# Altium integrated library NSC Switcher.IntLib: 922 symbols (part 1 of 24)
Pins are listed as number, name and electrical type; pins without a type are passive.

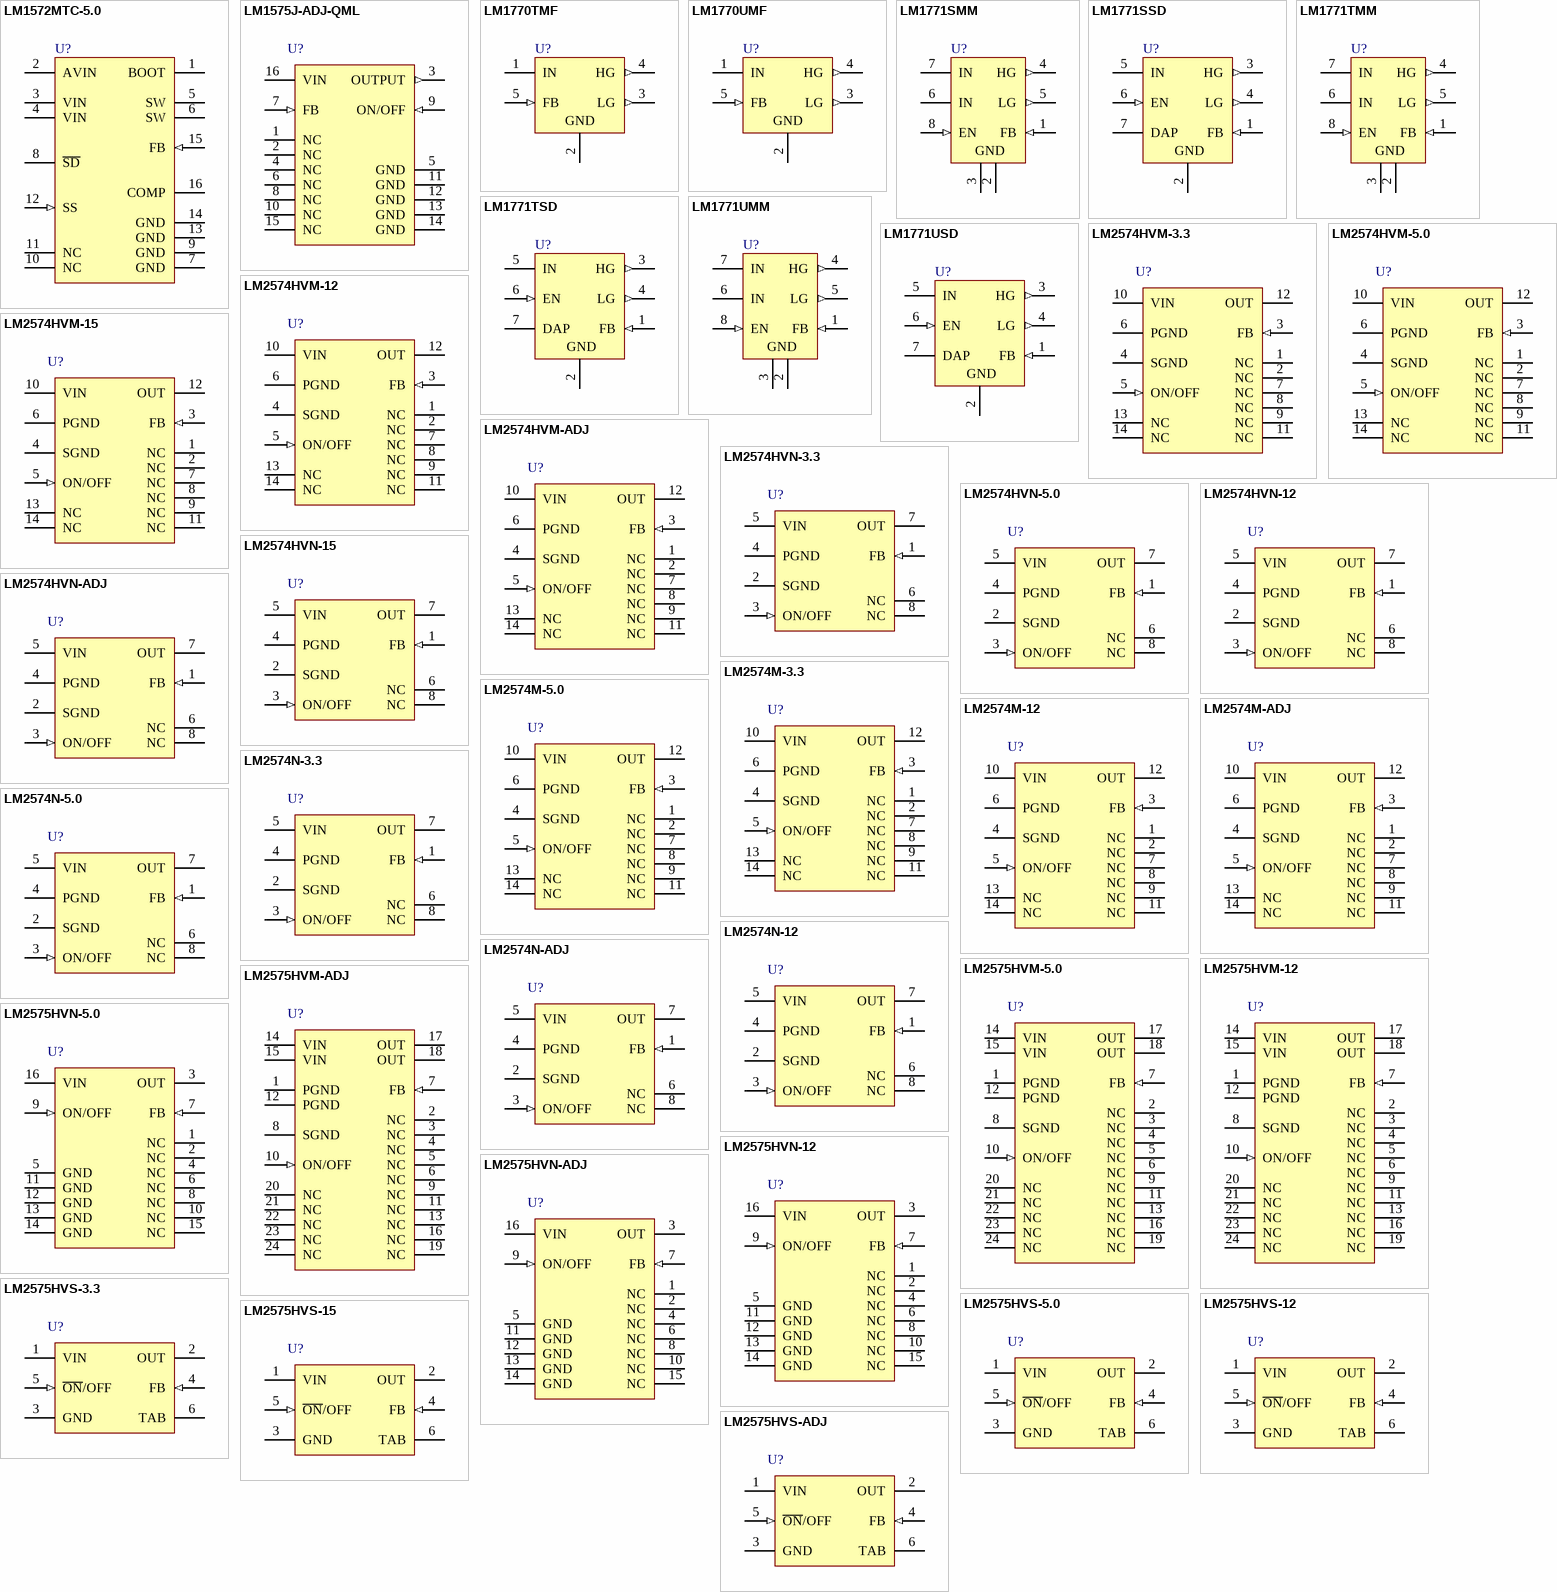
[diagram p0: symbols LM1572MTC-5.0 to LM2575HVS-ADJ]

## LM1572MTC-5.0
designator U?
1.5A, 500kHz Step-down Voltage Regulator; PartNumber: LM1572MTC-5.0; Manufacturer: National Semiconductor; CompType: Switcher; PackageTopMarking: NSZXYTT*1572MTC*5.0; PowerWise: N; FirstPublished: 29-May-2009; DatasheetVersion: Jul-2002; PackageVersion: revD, Jun-2003; PackageReference: MTC16; Publisher: Altium Limited; PackageDescription: Molded TSSOP, Jedec, 5 x 4.4 x 0.9mm Body, 16 Lead, 0.65mm Pitch; RoHS: Y; PinCount: 16; DigiKeyPartNumber: LM1572MTC-5.0-ND; Code_JEDEC: MO-153-AB; ComponentLink1Description: LM1572 Datasheet; ComponentLink1URL: http://www.national.com/ds/LM/LM1572.pdf; ComponentLink2Description: LM1572 Web Page; ComponentLink2URL: http://www.national.com/pf/LM/LM1572.html; ComponentLink3Description: MTC16 Package Page; ComponentLink3URL: http://www.national.com/packaging/folders/mtc16.html
footprint MTC16_N (TSOP, 16-Leads, Body 5x4.4mm, Pitch 0.65mm, IPC Medium Density)
footprint MTC16_L (TSOP, 16-Leads, Body 5x4.4mm, Pitch 0.65mm, IPC High Density)
footprint MTC16_M (TSOP, 16-Leads, Body 5x4.4mm, Pitch 0.65mm, IPC Low Density)
pins: 1 BOOT, 2 AVIN (power), 3 VIN (power), 4 VIN (power), 5 SW (power), 6 SW (power), 7 GND (power), 8 ~{SD}, 9 GND (power), 10 NC, 11 NC, 12 SS (in), 13 GND (power), 14 GND (power), 15 FB (in), 16 COMP

## LM1575J-ADJ-QML
designator U?
SIMPLE SWITCHER 1A Step-Down Voltage Regulator; PartNumber: LM1575J-ADJ-QML; Manufacturer: National Semiconductor; PackageTopMarking: NSZSSXXYYA*LM1575J-ADJ-QML*5962-9167101MEA Q; PowerWise: N; MilaeroCode: B88; FirstPublished: 4-Dec-2008; DatasheetVersion: Apr-2007; PackageVersion: revL, Sep-1993; PackageReference: J16A; Publisher: Altium Limited; PackageDescription: Cerdip (J), 16 Lead; CompType: Switcher; RoHS: N; PinCount: 16; ComponentLink1Description: LM1575 Datasheet; ComponentLink1URL: http://www.national.com/ds/LM/LM1575.pdf; ComponentLink2Description: LM1575 Web Page; ComponentLink2URL: http://www.national.com/pf/LM/LM1575.html; ComponentLink3Description: J16A Package Drawing; ComponentLink3URL: http://www.national.com/packaging/folders/j16a.html
footprint J16A (DIP, 16-Leads, Row Spacing 7.62mm, Pitch 2.54mm, Body 19.56x6.73mm)
pins: 1 NC, 2 NC, 3 OUTPUT (out), 4 NC, 5 GND (power), 6 NC, 7 FB (in), 8 NC, 9 ON/OFF (in), 10 NC, 11 GND (power), 12 GND (power), 13 GND (power), 14 GND (power), 15 NC, 16 VIN (power)

## LM1770TMF
designator U?
Low-Voltage SOT23 Synchronous Buck Controller With No External Compensation; PartNumber: LM1770TMF; Manufacturer: National Semiconductor; CompType: Switcher; PackageTopMarking: SKKB*XTT; FirstPublished: 4-Dec-2008; DatasheetVersion: Jul-2006; PackageVersion: revD, Aug-2008; PackageReference: MF05A; Publisher: Altium Limited; PackageDescription: Molded SOT-23, .115 x .063 x .040 in Body, 5 Lead, .0375 in Pitch; RoHS: O; PinCount: 5; DigiKeyPartNumber: LM1770TMFCT-ND; ComponentLink1Description: LM1770 Datasheet; ComponentLink1URL: http://www.national.com/ds/LM/LM1770.pdf; ComponentLink2Description: LM1770 Web Page; ComponentLink2URL: http://www.national.com/pf/LM/LM1770.html; ComponentLink3Description: MF05A Package Drawing; ComponentLink3URL: http://www.national.com/packaging/folders/mf05a.html
footprint MF05A_N (SOT23, 5-Leads, Body 2.9x1.6mm, Pitch 0.95mm, Lead Span 2.8mm, IPC Medium Density)
footprint MF05A_L (SOT23, 5-Leads, Body 2.9x1.6mm, Pitch 0.95mm, Lead Span 2.8mm, IPC High Density)
footprint MF05A_M (SOT23, 5-Leads, Body 2.9x1.6mm, Pitch 0.95mm, Lead Span 2.8mm, IPC Low Density)
pins: 1 IN (power), 2 GND (power), 3 LG (out), 4 HG (out), 5 FB (in)

## LM1770UMF
designator U?
Low-Voltage SOT23 Synchronous Buck Controller With No External Compensation; PartNumber: LM1770UMF; Manufacturer: National Semiconductor; CompType: Switcher; PackageTopMarking: SKLB*XTT; FirstPublished: 4-Dec-2008; DatasheetVersion: Jul-2006; PackageVersion: revD, Aug-2008; PackageReference: MF05A; Publisher: Altium Limited; PackageDescription: Molded SOT-23, .115 x .063 x .040 in Body, 5 Lead, .0375 in Pitch; RoHS: Y; PinCount: 5; DigiKeyPartNumber: LM1770UMFCT-ND; ComponentLink1Description: LM1770 Datasheet; ComponentLink1URL: http://www.national.com/ds/LM/LM1770.pdf; ComponentLink2Description: LM1770 Web Page; ComponentLink2URL: http://www.national.com/pf/LM/LM1770.html; ComponentLink3Description: MF05A Package Drawing; ComponentLink3URL: http://www.national.com/packaging/folders/mf05a.html
footprint MF05A_N (SOT23, 5-Leads, Body 2.9x1.6mm, Pitch 0.95mm, Lead Span 2.8mm, IPC Medium Density)
footprint MF05A_L (SOT23, 5-Leads, Body 2.9x1.6mm, Pitch 0.95mm, Lead Span 2.8mm, IPC High Density)
footprint MF05A_M (SOT23, 5-Leads, Body 2.9x1.6mm, Pitch 0.95mm, Lead Span 2.8mm, IPC Low Density)
pins: 1 IN (power), 2 GND (power), 3 LG (out), 4 HG (out), 5 FB (in)

## LM1771SMM
designator U?
Low-Voltage Synchronous Buck Controller with Precision Enable and No External Compensation; PartNumber: LM1771SMM; Manufacturer: National Semiconductor; CompType: Switcher; PackageTopMarking: ZXTT*SNRB; FirstPublished: 4-Dec-2008; DatasheetVersion: Oct-2006; PackageVersion: revF, Apr-2008; PackageReference: MUA08A; Publisher: Altium Limited; PackageDescription: MINI SOIC, .118 x .118 x .034in, 8 Lead, .0256in Pitch; RoHS: Y; PinCount: 8; DigiKeyPartNumber: LM1771SMMCT-ND; Code_JEDEC: MO-187-AA; ComponentLink1Description: LM1771 Datasheet; ComponentLink1URL: http://www.national.com/ds/LM/LM1771.pdf; ComponentLink2Description: LM1771 Web Page; ComponentLink2URL: http://www.national.com/pf/LM/LM1771.html; ComponentLink3Description: MUA08A Package Drawing; ComponentLink3URL: http://www.national.com/packaging/folders/mua08a.html
footprint MUA08A_N (TSOP, 8-Leads, Body 3x3mm, Pitch 0.65mm, IPC Medium Density)
footprint MUA08A_L (TSOP, 8-Leads, Body 3x3mm, Pitch 0.65mm, IPC High Density)
footprint MUA08A_M (TSOP, 8-Leads, Body 3x3mm, Pitch 0.65mm, IPC Low Density)
pins: 1 FB (in), 2 GND (power), 3 GND (power), 4 HG (out), 5 LG (out), 6 IN (power), 7 IN (power), 8 EN (in)

## LM1771SSD
designator U?
Low-Voltage Synchronous Buck Controller with Precision Enable and No External Compensation; PartNumber: LM1771SSD; Manufacturer: National Semiconductor; CompType: Switcher; PackageTopMarking: ZXYTT*1771S; FirstPublished: 4-Dec-2008; DatasheetVersion: Oct-2006; PackageVersion: revA, Jul-2003; PackageReference: SDE06A; Publisher: Altium Limited; PackageDescription: LLP, Plastic, Dual, 3 x 3 x 0.8mm Body, 6 Lead, 0.95mm Pitch, No Pullback; RoHS: Y; PinCount: 6; DigiKeyPartNumber: LM1771SSDCT-ND; ComponentLink1Description: LM1771 Datasheet; ComponentLink1URL: http://www.national.com/ds/LM/LM1771.pdf; ComponentLink2Description: LM1771 Web Page; ComponentLink2URL: http://www.national.com/pf/LM/LM1771.html; ComponentLink3Description: SDE06A Package Drawing; ComponentLink3URL: http://www.national.com/packaging/folders/sde06a.html
footprint SDE06A_full (SON, 6-Leads, Body 3x3 mm, Pitch 0.95mm, Full Paste, NSC Recommended)
footprint SDE06A_quad (SON, 6-Leads, Body 3x3 mm, Pitch 0.95mm, Quad Paste, NSC Recommended)
pins: 1 FB (in), 2 GND (power), 3 HG (out), 4 LG (out), 5 IN (power), 6 EN (in), 7 DAP (power)

## LM1771TMM
designator U?
Low-Voltage Synchronous Buck Controller with Precision Enable and No External Compensation; PartNumber: LM1771TMM; Manufacturer: National Semiconductor; CompType: Switcher; PackageTopMarking: ZXTT*SNSB; FirstPublished: 4-Dec-2008; DatasheetVersion: Oct-2006; PackageVersion: revF, Apr-2008; PackageReference: MUA08A; Publisher: Altium Limited; PackageDescription: MINI SOIC, .118 x .118 x .034in, 8 Lead, .0256in Pitch; RoHS: Y; PinCount: 8; DigiKeyPartNumber: LM1771TMMCT-ND; Code_JEDEC: MO-187-AA; ComponentLink1Description: LM1771 Datasheet; ComponentLink1URL: http://www.national.com/ds/LM/LM1771.pdf; ComponentLink2Description: LM1771 Web Page; ComponentLink2URL: http://www.national.com/pf/LM/LM1771.html; ComponentLink3Description: MUA08A Package Drawing; ComponentLink3URL: http://www.national.com/packaging/folders/mua08a.html
footprint MUA08A_N (TSOP, 8-Leads, Body 3x3mm, Pitch 0.65mm, IPC Medium Density)
footprint MUA08A_L (TSOP, 8-Leads, Body 3x3mm, Pitch 0.65mm, IPC High Density)
footprint MUA08A_M (TSOP, 8-Leads, Body 3x3mm, Pitch 0.65mm, IPC Low Density)
pins: 1 FB (in), 2 GND (power), 3 GND (power), 4 HG (out), 5 LG (out), 6 IN (power), 7 IN (power), 8 EN (in)

## LM1771TSD
designator U?
Low-Voltage Synchronous Buck Controller with Precision Enable and No External Compensation; PartNumber: LM1771TSD; Manufacturer: National Semiconductor; CompType: Switcher; PackageTopMarking: ZXYTT*1771T; FirstPublished: 4-Dec-2008; DatasheetVersion: Oct-2006; PackageVersion: revA, Jul-2003; PackageReference: SDE06A; Publisher: Altium Limited; PackageDescription: LLP, Plastic, Dual, 3 x 3 x 0.8mm Body, 6 Lead, 0.95mm Pitch, No Pullback; RoHS: Y; PinCount: 6; DigiKeyPartNumber: LM1771TSDCT-ND; ComponentLink1Description: LM1771 Datasheet; ComponentLink1URL: http://www.national.com/ds/LM/LM1771.pdf; ComponentLink2Description: LM1771 Web Page; ComponentLink2URL: http://www.national.com/pf/LM/LM1771.html; ComponentLink3Description: SDE06A Package Drawing; ComponentLink3URL: http://www.national.com/packaging/folders/sde06a.html
footprint SDE06A_full (SON, 6-Leads, Body 3x3 mm, Pitch 0.95mm, Full Paste, NSC Recommended)
footprint SDE06A_quad (SON, 6-Leads, Body 3x3 mm, Pitch 0.95mm, Quad Paste, NSC Recommended)
pins: 1 FB (in), 2 GND (power), 3 HG (out), 4 LG (out), 5 IN (power), 6 EN (in), 7 DAP (power)

## LM1771UMM
designator U?
Low-Voltage Synchronous Buck Controller with Precision Enable and No External Compensation; PartNumber: LM1771UMM; Manufacturer: National Semiconductor; CompType: Switcher; PackageTopMarking: ZXTT*SNTB; FirstPublished: 4-Dec-2008; DatasheetVersion: Oct-2006; PackageVersion: revF, Apr-2008; PackageReference: MUA08A; Publisher: Altium Limited; PackageDescription: MINI SOIC, .118 x .118 x .034in, 8 Lead, .0256in Pitch; RoHS: Y; PinCount: 8; DigiKeyPartNumber: LM1771UMMCT-ND; Code_JEDEC: MO-187-AA; ComponentLink1Description: LM1771 Datasheet; ComponentLink1URL: http://www.national.com/ds/LM/LM1771.pdf; ComponentLink2Description: LM1771 Web Page; ComponentLink2URL: http://www.national.com/pf/LM/LM1771.html; ComponentLink3Description: MUA08A Package Drawing; ComponentLink3URL: http://www.national.com/packaging/folders/mua08a.html
footprint MUA08A_N (TSOP, 8-Leads, Body 3x3mm, Pitch 0.65mm, IPC Medium Density)
footprint MUA08A_L (TSOP, 8-Leads, Body 3x3mm, Pitch 0.65mm, IPC High Density)
footprint MUA08A_M (TSOP, 8-Leads, Body 3x3mm, Pitch 0.65mm, IPC Low Density)
pins: 1 FB (in), 2 GND (power), 3 GND (power), 4 HG (out), 5 LG (out), 6 IN (power), 7 IN (power), 8 EN (in)

## LM1771USD
designator U?
Low-Voltage Synchronous Buck Controller with Precision Enable and No External Compensation; PartNumber: LM1771USD; Manufacturer: National Semiconductor; CompType: Switcher; PackageTopMarking: ZXYTT*1771U; FirstPublished: 4-Dec-2008; DatasheetVersion: Oct-2006; PackageVersion: revA, Jul-2003; PackageReference: SDE06A; Publisher: Altium Limited; PackageDescription: LLP, Plastic, Dual, 3 x 3 x 0.8mm Body, 6 Lead, 0.95mm Pitch, No Pullback; RoHS: Y; PinCount: 6; DigiKeyPartNumber: LM1771USDCT-ND; ComponentLink1Description: LM1771 Datasheet; ComponentLink1URL: http://www.national.com/ds/LM/LM1771.pdf; ComponentLink2Description: LM1771 Web Page; ComponentLink2URL: http://www.national.com/pf/LM/LM1771.html; ComponentLink3Description: SDE06A Package Drawing; ComponentLink3URL: http://www.national.com/packaging/folders/sde06a.html
footprint SDE06A_full (SON, 6-Leads, Body 3x3 mm, Pitch 0.95mm, Full Paste, NSC Recommended)
footprint SDE06A_quad (SON, 6-Leads, Body 3x3 mm, Pitch 0.95mm, Quad Paste, NSC Recommended)
pins: 1 FB (in), 2 GND (power), 3 HG (out), 4 LG (out), 5 IN (power), 6 EN (in), 7 DAP (power)

## LM2574HVM-3.3
designator U?
SIMPLE SWITCHER 0.5A Step-Down Voltage Regulator; PartNumber: LM2574HVM-3.3; Manufacturer: National Semiconductor; PackageTopMarking: NSUZXYTT*LM2574HVM*-3.3 P+; PowerWise: N; FirstPublished: 4-Dec-2008; DatasheetVersion: Jun-1999; PackageVersion: revD, Feb-1987; PackageReference: M14B; Publisher: Altium Limited; PackageDescription: Molded Package, S.O., .300in Wide, 14 Lead; CompType: Switcher; RoHS: O; PinCount: 14; DigiKeyPartNumber: LM2574HVM-3.3-ND; Code_JEDEC: MS-013-AF; Code_IPC: SOIC127P1030-14; ComponentLink1Description: LM2574HV Datasheet; ComponentLink1URL: http://www.national.com/ds/LM/LM2574HV.pdf; ComponentLink2Description: LM2574HV Web Page; ComponentLink2URL: http://www.national.com/pf/LM/LM2574HV.html; ComponentLink3Description: M14B Package Page; ComponentLink3URL: http://www.national.com/packaging/folders/m14b.html
footprint M14B_N (SOIC, 14-Leads, Body 9x7.5mm, Pitch 1.27mm, IPC Medium Density)
footprint M14B_L (SOIC, 14-Leads, Body 9x7.5mm, Pitch 1.27mm, IPC High Density)
footprint M14B_M (SOIC, 14-Leads, Body 9x7.5mm, Pitch 1.27mm, IPC Low Density)
pins: 1 NC, 2 NC, 3 FB (in), 4 SGND (power), 5 ON/OFF (in), 6 PGND (power), 7 NC, 8 NC, 9 NC, 10 VIN (power), 11 NC, 12 OUT (power), 13 NC, 14 NC

## LM2574HVM-5.0
designator U?
SIMPLE SWITCHER 0.5A Step-Down Voltage Regulator; PartNumber: LM2574HVM-5.0; Manufacturer: National Semiconductor; PackageTopMarking: NSUZXYTT*LM2574HVM*-5.0 P+; PowerWise: N; FirstPublished: 4-Dec-2008; DatasheetVersion: Jun-1999; PackageVersion: revD, Feb-1987; PackageReference: M14B; Publisher: Altium Limited; PackageDescription: Molded Package, S.O., .300in Wide, 14 Lead; CompType: Switcher; RoHS: O; PinCount: 14; DigiKeyPartNumber: LM2574HVM-5.0-ND; Code_JEDEC: MS-013-AF; Code_IPC: SOIC127P1030-14; ComponentLink1Description: LM2574HV Datasheet; ComponentLink1URL: http://www.national.com/ds/LM/LM2574HV.pdf; ComponentLink2Description: LM2574HV Web Page; ComponentLink2URL: http://www.national.com/pf/LM/LM2574HV.html; ComponentLink3Description: M14B Package Page; ComponentLink3URL: http://www.national.com/packaging/folders/m14b.html
footprint M14B_N (SOIC, 14-Leads, Body 9x7.5mm, Pitch 1.27mm, IPC Medium Density)
footprint M14B_L (SOIC, 14-Leads, Body 9x7.5mm, Pitch 1.27mm, IPC High Density)
footprint M14B_M (SOIC, 14-Leads, Body 9x7.5mm, Pitch 1.27mm, IPC Low Density)
pins: 1 NC, 2 NC, 3 FB (in), 4 SGND (power), 5 ON/OFF (in), 6 PGND (power), 7 NC, 8 NC, 9 NC, 10 VIN (power), 11 NC, 12 OUT (power), 13 NC, 14 NC

## LM2574HVM-12
designator U?
SIMPLE SWITCHER 0.5A Step-Down Voltage Regulator; PartNumber: LM2574HVM-12; Manufacturer: National Semiconductor; PackageTopMarking: NSUZXYTT*LM2574HVM*-12 P+; PowerWise: N; FirstPublished: 4-Dec-2008; DatasheetVersion: Jun-1999; PackageVersion: revD, Feb-1987; PackageReference: M14B; Publisher: Altium Limited; PackageDescription: Molded Package, S.O., .300in Wide, 14 Lead; CompType: Switcher; RoHS: O; PinCount: 14; DigiKeyPartNumber: LM2574HVM-12-ND; Code_JEDEC: MS-013-AF; Code_IPC: SOIC127P1030-14; ComponentLink1Description: LM2574HV Datasheet; ComponentLink1URL: http://www.national.com/ds/LM/LM2574HV.pdf; ComponentLink2Description: LM2574HV Web Page; ComponentLink2URL: http://www.national.com/pf/LM/LM2574HV.html; ComponentLink3Description: M14B Package Page; ComponentLink3URL: http://www.national.com/packaging/folders/m14b.html
footprint M14B_N (SOIC, 14-Leads, Body 9x7.5mm, Pitch 1.27mm, IPC Medium Density)
footprint M14B_L (SOIC, 14-Leads, Body 9x7.5mm, Pitch 1.27mm, IPC High Density)
footprint M14B_M (SOIC, 14-Leads, Body 9x7.5mm, Pitch 1.27mm, IPC Low Density)
pins: 1 NC, 2 NC, 3 FB (in), 4 SGND (power), 5 ON/OFF (in), 6 PGND (power), 7 NC, 8 NC, 9 NC, 10 VIN (power), 11 NC, 12 OUT (power), 13 NC, 14 NC

## LM2574HVM-15
designator U?
SIMPLE SWITCHER 0.5A Step-Down Voltage Regulator; PartNumber: LM2574HVM-15; Manufacturer: National Semiconductor; PackageTopMarking: NSUZXYTT*LM2574HVM*-15 P+; PowerWise: N; FirstPublished: 4-Dec-2008; DatasheetVersion: Jun-1999; PackageVersion: revD, Feb-1987; PackageReference: M14B; Publisher: Altium Limited; PackageDescription: Molded Package, S.O., .300in Wide, 14 Lead; CompType: Switcher; RoHS: Y; PinCount: 14; DigiKeyPartNumber: LM2574HVM-15-ND; Code_JEDEC: MS-013-AF; Code_IPC: SOIC127P1030-14; ComponentLink1Description: LM2574HV Datasheet; ComponentLink1URL: http://www.national.com/ds/LM/LM2574HV.pdf; ComponentLink2Description: LM2574HV Web Page; ComponentLink2URL: http://www.national.com/pf/LM/LM2574HV.html; ComponentLink3Description: M14B Package Page; ComponentLink3URL: http://www.national.com/packaging/folders/m14b.html
footprint M14B_N (SOIC, 14-Leads, Body 9x7.5mm, Pitch 1.27mm, IPC Medium Density)
footprint M14B_L (SOIC, 14-Leads, Body 9x7.5mm, Pitch 1.27mm, IPC High Density)
footprint M14B_M (SOIC, 14-Leads, Body 9x7.5mm, Pitch 1.27mm, IPC Low Density)
pins: 1 NC, 2 NC, 3 FB (in), 4 SGND (power), 5 ON/OFF (in), 6 PGND (power), 7 NC, 8 NC, 9 NC, 10 VIN (power), 11 NC, 12 OUT (power), 13 NC, 14 NC

## LM2574HVM-ADJ
designator U?
SIMPLE SWITCHER 0.5A Step-Down Voltage Regulator; PartNumber: LM2574HVM-ADJ; Manufacturer: National Semiconductor; PackageTopMarking: NSUZXYTT*LM2574HVM*-ADJ P+; PowerWise: N; FirstPublished: 4-Dec-2008; DatasheetVersion: Jun-1999; PackageVersion: revD, Feb-1987; PackageReference: M14B; Publisher: Altium Limited; PackageDescription: Molded Package, S.O., .300in Wide, 14 Lead; CompType: Switcher; RoHS: O; PinCount: 14; DigiKeyPartNumber: LM2574HVM-ADJ-ND; Code_JEDEC: MS-013-AF; Code_IPC: SOIC127P1030-14; ComponentLink1Description: LM2574HV Datasheet; ComponentLink1URL: http://www.national.com/ds/LM/LM2574HV.pdf; ComponentLink2Description: LM2574HV Web Page; ComponentLink2URL: http://www.national.com/pf/LM/LM2574HV.html; ComponentLink3Description: M14B Package Page; ComponentLink3URL: http://www.national.com/packaging/folders/m14b.html
footprint M14B_N (SOIC, 14-Leads, Body 9x7.5mm, Pitch 1.27mm, IPC Medium Density)
footprint M14B_L (SOIC, 14-Leads, Body 9x7.5mm, Pitch 1.27mm, IPC High Density)
footprint M14B_M (SOIC, 14-Leads, Body 9x7.5mm, Pitch 1.27mm, IPC Low Density)
pins: 1 NC, 2 NC, 3 FB (in), 4 SGND (power), 5 ON/OFF (in), 6 PGND (power), 7 NC, 8 NC, 9 NC, 10 VIN (power), 11 NC, 12 OUT (power), 13 NC, 14 NC

## LM2574HVN-3.3
designator U?
SIMPLE SWITCHER 0.5A Step-Down Voltage Regulator; PartNumber: LM2574HVN-3.3; Manufacturer: National Semiconductor; PackageTopMarking: NSUZXYTT*LM2574HVN*-3.3 P+; FirstPublished: 4-Dec-2008; DatasheetVersion: Jun-1999; PackageVersion: revG, May-2006; PackageReference: N08E; Publisher: Altium Limited; PackageDescription: MDIP, .365 x .250 x .130in, 8 Lead, .100in Pitch; CompType: Switcher; RoHS: Y; PinCount: 8; DigiKeyPartNumber: LM2574HVN-3.3-ND; Code_JEDEC: MS-001-BA; ComponentLink1Description: LM2574HV Datasheet; ComponentLink1URL: http://www.national.com/ds/LM/LM2574HV.pdf; ComponentLink2Description: LM2574HV Web Page; ComponentLink2URL: http://www.national.com/pf/LM/LM2574HV.html; ComponentLink3Description: N08E Package Page; ComponentLink3URL: http://www.national.com/packaging/folders/n08e.html
footprint N08E (DIP, 8-Leads, Row Spacing 7.62mm, Pitch 2.54mm, Body 9.91x6.35mm)
pins: 1 FB (in), 2 SGND (power), 3 ON/OFF (in), 4 PGND (power), 5 VIN (power), 6 NC, 7 OUT (power), 8 NC

## LM2574HVN-5.0
designator U?
SIMPLE SWITCHER 0.5A Step-Down Voltage Regulator; PartNumber: LM2574HVN-5.0; Manufacturer: National Semiconductor; PackageTopMarking: NSUZXYTT*LM2574HVN*-5.0 P+; PowerWise: N; FirstPublished: 4-Dec-2008; DatasheetVersion: Jun-1999; PackageVersion: revG, May-2006; PackageReference: N08E; Publisher: Altium Limited; PackageDescription: MDIP, .365 x .250 x .130in, 8 Lead, .100in Pitch; CompType: Switcher; RoHS: O; PinCount: 8; DigiKeyPartNumber: LM2574HVN-5.0-ND; Code_JEDEC: MS-001-BA; ComponentLink1Description: LM2574HV Datasheet; ComponentLink1URL: http://www.national.com/ds/LM/LM2574HV.pdf; ComponentLink2Description: LM2574HV Web Page; ComponentLink2URL: http://www.national.com/pf/LM/LM2574HV.html; ComponentLink3Description: N08E Package Page; ComponentLink3URL: http://www.national.com/packaging/folders/n08e.html
footprint N08E (DIP, 8-Leads, Row Spacing 7.62mm, Pitch 2.54mm, Body 9.91x6.35mm)
pins: 1 FB (in), 2 SGND (power), 3 ON/OFF (in), 4 PGND (power), 5 VIN (power), 6 NC, 7 OUT (power), 8 NC

## LM2574HVN-12
designator U?
SIMPLE SWITCHER 0.5A Step-Down Voltage Regulator; PartNumber: LM2574HVN-12; Manufacturer: National Semiconductor; PackageTopMarking: NSUZXYTT*LM2574HVN*-12 P+; PowerWise: N; FirstPublished: 4-Dec-2008; DatasheetVersion: Jun-1999; PackageVersion: revG, May-2006; PackageReference: N08E; Publisher: Altium Limited; PackageDescription: MDIP, .365 x .250 x .130in, 8 Lead, .100in Pitch; CompType: Switcher; RoHS: O; PinCount: 8; DigiKeyPartNumber: LM2574HVN-12-ND; Code_JEDEC: MS-001-BA; ComponentLink1Description: LM2574HV Datasheet; ComponentLink1URL: http://www.national.com/ds/LM/LM2574HV.pdf; ComponentLink2Description: LM2574HV Web Page; ComponentLink2URL: http://www.national.com/pf/LM/LM2574HV.html; ComponentLink3Description: N08E Package Page; ComponentLink3URL: http://www.national.com/packaging/folders/n08e.html
footprint N08E (DIP, 8-Leads, Row Spacing 7.62mm, Pitch 2.54mm, Body 9.91x6.35mm)
pins: 1 FB (in), 2 SGND (power), 3 ON/OFF (in), 4 PGND (power), 5 VIN (power), 6 NC, 7 OUT (power), 8 NC

## LM2574HVN-15
designator U?
SIMPLE SWITCHER 0.5A Step-Down Voltage Regulator; PartNumber: LM2574HVN-15; Manufacturer: National Semiconductor; PackageTopMarking: NSUZXYTT*LM2574HVN*-15 P+; PowerWise: N; FirstPublished: 4-Dec-2008; DatasheetVersion: Jun-1999; PackageVersion: revG, May-2006; PackageReference: N08E; Publisher: Altium Limited; PackageDescription: MDIP, .365 x .250 x .130in, 8 Lead, .100in Pitch; CompType: Switcher; RoHS: O; PinCount: 8; DigiKeyPartNumber: LM2574HVN-15-ND; Code_JEDEC: MS-001-BA; ComponentLink1Description: LM2574HV Datasheet; ComponentLink1URL: http://www.national.com/ds/LM/LM2574HV.pdf; ComponentLink2Description: LM2574HV Web Page; ComponentLink2URL: http://www.national.com/pf/LM/LM2574HV.html; ComponentLink3Description: N08E Package Page; ComponentLink3URL: http://www.national.com/packaging/folders/n08e.html
footprint N08E (DIP, 8-Leads, Row Spacing 7.62mm, Pitch 2.54mm, Body 9.91x6.35mm)
pins: 1 FB (in), 2 SGND (power), 3 ON/OFF (in), 4 PGND (power), 5 VIN (power), 6 NC, 7 OUT (power), 8 NC

## LM2574HVN-ADJ
designator U?
SIMPLE SWITCHER 0.5A Step-Down Voltage Regulator; PartNumber: LM2574HVN-ADJ; Manufacturer: National Semiconductor; PackageTopMarking: NSUZXYTT*LM2574HVN*-ADJ P+; PowerWise: N; FirstPublished: 4-Dec-2008; DatasheetVersion: Jun-1999; PackageVersion: revG, May-2006; PackageReference: N08E; Publisher: Altium Limited; PackageDescription: MDIP, .365 x .250 x .130in, 8 Lead, .100in Pitch; CompType: Switcher; RoHS: O; PinCount: 8; DigiKeyPartNumber: LM2574HVN-ADJ-ND; Code_JEDEC: MS-001-BA; ComponentLink1Description: LM2574HV Datasheet; ComponentLink1URL: http://www.national.com/ds/LM/LM2574HV.pdf; ComponentLink2Description: LM2574HV Web Page; ComponentLink2URL: http://www.national.com/pf/LM/LM2574HV.html; ComponentLink3Description: N08E Package Page; ComponentLink3URL: http://www.national.com/packaging/folders/n08e.html
footprint N08E (DIP, 8-Leads, Row Spacing 7.62mm, Pitch 2.54mm, Body 9.91x6.35mm)
pins: 1 FB (in), 2 SGND (power), 3 ON/OFF (in), 4 PGND (power), 5 VIN (power), 6 NC, 7 OUT (power), 8 NC

## LM2574M-3.3
designator U?
SIMPLE SWITCHER 0.5A Step-Down Voltage Regulator; PartNumber: LM2574M-3.3; Manufacturer: National Semiconductor; PackageTopMarking: NSUZXYTT*LM2574M*-3.3 P+; PowerWise: N; FirstPublished: 4-Dec-2008; DatasheetVersion: Jun-1999; PackageVersion: revD, Feb-1987; PackageReference: M14B; Publisher: Altium Limited; PackageDescription: Molded Package, S.O., .300in Wide, 14 Lead; CompType: Switcher; RoHS: Y; PinCount: 14; DigiKeyPartNumber: LM2574M-3.3-ND; Code_JEDEC: MS-013-AF; Code_IPC: SOIC127P1030-14; ComponentLink1Description: LM2574 Datasheet; ComponentLink1URL: http://www.national.com/ds/LM/LM2574.pdf; ComponentLink2Description: LM2574 Web Page; ComponentLink2URL: http://www.national.com/pf/LM/LM2574.html; ComponentLink3Description: M14B Package Page; ComponentLink3URL: http://www.national.com/packaging/folders/m14b.html
footprint M14B_N (SOIC, 14-Leads, Body 9x7.5mm, Pitch 1.27mm, IPC Medium Density)
footprint M14B_L (SOIC, 14-Leads, Body 9x7.5mm, Pitch 1.27mm, IPC High Density)
footprint M14B_M (SOIC, 14-Leads, Body 9x7.5mm, Pitch 1.27mm, IPC Low Density)
pins: 1 NC, 2 NC, 3 FB (in), 4 SGND (power), 5 ON/OFF (in), 6 PGND (power), 7 NC, 8 NC, 9 NC, 10 VIN (power), 11 NC, 12 OUT (power), 13 NC, 14 NC

## LM2574M-5.0
designator U?
SIMPLE SWITCHER 0.5A Step-Down Voltage Regulator; PartNumber: LM2574M-5.0; Manufacturer: National Semiconductor; PackageTopMarking: NSUZXYTT*LM2574M*-5.0 P+; PowerWise: N; FirstPublished: 4-Dec-2008; DatasheetVersion: Jun-1999; PackageVersion: revD, Feb-1987; PackageReference: M14B; Publisher: Altium Limited; PackageDescription: Molded Package, S.O., .300in Wide, 14 Lead; CompType: Switcher; RoHS: O; PinCount: 14; DigiKeyPartNumber: LM2574M-5.0-ND; Code_JEDEC: MS-013-AF; Code_IPC: SOIC127P1030-14; ComponentLink1Description: LM2574 Datasheet; ComponentLink1URL: http://www.national.com/ds/LM/LM2574.pdf; ComponentLink2Description: LM2574 Web Page; ComponentLink2URL: http://www.national.com/pf/LM/LM2574.html; ComponentLink3Description: M14B Package Page; ComponentLink3URL: http://www.national.com/packaging/folders/m14b.html
footprint M14B_N (SOIC, 14-Leads, Body 9x7.5mm, Pitch 1.27mm, IPC Medium Density)
footprint M14B_L (SOIC, 14-Leads, Body 9x7.5mm, Pitch 1.27mm, IPC High Density)
footprint M14B_M (SOIC, 14-Leads, Body 9x7.5mm, Pitch 1.27mm, IPC Low Density)
pins: 1 NC, 2 NC, 3 FB (in), 4 SGND (power), 5 ON/OFF (in), 6 PGND (power), 7 NC, 8 NC, 9 NC, 10 VIN (power), 11 NC, 12 OUT (power), 13 NC, 14 NC

## LM2574M-12
designator U?
SIMPLE SWITCHER 0.5A Step-Down Voltage Regulator; PartNumber: LM2574M-12; Manufacturer: National Semiconductor; PackageTopMarking: NSUZXYTT*LM2574M*-12 P+; PowerWise: N; FirstPublished: 4-Dec-2008; DatasheetVersion: Jun-1999; PackageVersion: revD, Feb-1987; PackageReference: M14B; Publisher: Altium Limited; PackageDescription: Molded Package, S.O., .300in Wide, 14 Lead; CompType: Switcher; RoHS: O; PinCount: 14; DigiKeyPartNumber: LM2574M-12-ND; Code_JEDEC: MS-013-AF; Code_IPC: SOIC127P1030-14; ComponentLink1Description: LM2574 Datasheet; ComponentLink1URL: http://www.national.com/ds/LM/LM2574.pdf; ComponentLink2Description: LM2574 Web Page; ComponentLink2URL: http://www.national.com/pf/LM/LM2574.html; ComponentLink3Description: M14B Package Page; ComponentLink3URL: http://www.national.com/packaging/folders/m14b.html
footprint M14B_N (SOIC, 14-Leads, Body 9x7.5mm, Pitch 1.27mm, IPC Medium Density)
footprint M14B_L (SOIC, 14-Leads, Body 9x7.5mm, Pitch 1.27mm, IPC High Density)
footprint M14B_M (SOIC, 14-Leads, Body 9x7.5mm, Pitch 1.27mm, IPC Low Density)
pins: 1 NC, 2 NC, 3 FB (in), 4 SGND (power), 5 ON/OFF (in), 6 PGND (power), 7 NC, 8 NC, 9 NC, 10 VIN (power), 11 NC, 12 OUT (power), 13 NC, 14 NC

## LM2574M-ADJ
designator U?
SIMPLE SWITCHER 0.5A Step-Down Voltage Regulator; PartNumber: LM2574M-ADJ; Manufacturer: National Semiconductor; PackageTopMarking: NSUZXYTT*LM2574M*-ADJ P+; PowerWise: N; FirstPublished: 4-Dec-2008; DatasheetVersion: Jun-1999; PackageVersion: revD, Feb-1987; PackageReference: M14B; Publisher: Altium Limited; PackageDescription: Molded Package, S.O., .300in Wide, 14 Lead; CompType: Switcher; RoHS: O; PinCount: 14; DigiKeyPartNumber: LM2574M-ADJ-ND; Code_JEDEC: MS-013-AF; Code_IPC: SOIC127P1030-14; ComponentLink1Description: LM2574 Datasheet; ComponentLink1URL: http://www.national.com/ds/LM/LM2574.pdf; ComponentLink2Description: LM2574 Web Page; ComponentLink2URL: http://www.national.com/pf/LM/LM2574.html; ComponentLink3Description: M14B Package Page; ComponentLink3URL: http://www.national.com/packaging/folders/m14b.html
footprint M14B_N (SOIC, 14-Leads, Body 9x7.5mm, Pitch 1.27mm, IPC Medium Density)
footprint M14B_L (SOIC, 14-Leads, Body 9x7.5mm, Pitch 1.27mm, IPC High Density)
footprint M14B_M (SOIC, 14-Leads, Body 9x7.5mm, Pitch 1.27mm, IPC Low Density)
pins: 1 NC, 2 NC, 3 FB (in), 4 SGND (power), 5 ON/OFF (in), 6 PGND (power), 7 NC, 8 NC, 9 NC, 10 VIN (power), 11 NC, 12 OUT (power), 13 NC, 14 NC

## LM2574N-3.3
designator U?
SIMPLE SWITCHER 0.5A Step-Down Voltage Regulator; PartNumber: LM2574N-3.3; Manufacturer: National Semiconductor; PackageTopMarking: NSUZXYTT*LM2574N*-3.3 P+; PowerWise: N; FirstPublished: 4-Dec-2008; DatasheetVersion: Jun-1999; PackageVersion: revG, May-2006; PackageReference: N08E; Publisher: Altium Limited; PackageDescription: MDIP, .365 x .250 x .130in, 8 Lead, .100in Pitch; CompType: Switcher; RoHS: O; PinCount: 8; DigiKeyPartNumber: LM2574N-3.3-ND; Code_JEDEC: MS-001-BA; ComponentLink1Description: LM2574 Datasheet; ComponentLink1URL: http://www.national.com/ds/LM/LM2574.pdf; ComponentLink2Description: LM2574 Web Page; ComponentLink2URL: http://www.national.com/pf/LM/LM2574.html; ComponentLink3Description: N08E Package Page; ComponentLink3URL: http://www.national.com/packaging/folders/n08e.html
footprint N08E (DIP, 8-Leads, Row Spacing 7.62mm, Pitch 2.54mm, Body 9.91x6.35mm)
pins: 1 FB (in), 2 SGND (power), 3 ON/OFF (in), 4 PGND (power), 5 VIN (power), 6 NC, 7 OUT (power), 8 NC

## LM2574N-5.0
designator U?
SIMPLE SWITCHER 0.5A Step-Down Voltage Regulator; PartNumber: LM2574N-5.0; Manufacturer: National Semiconductor; PackageTopMarking: NSUZXYTT*LM2574N*-5.0 P+; PowerWise: N; FirstPublished: 4-Dec-2008; DatasheetVersion: Jun-1999; PackageVersion: revG, May-2006; PackageReference: N08E; Publisher: Altium Limited; PackageDescription: MDIP, .365 x .250 x .130in, 8 Lead, .100in Pitch; CompType: Switcher; RoHS: O; PinCount: 8; DigiKeyPartNumber: LM2574N-5.0-ND; Code_JEDEC: MS-001-BA; ComponentLink1Description: LM2574 Datasheet; ComponentLink1URL: http://www.national.com/ds/LM/LM2574.pdf; ComponentLink2Description: LM2574 Web Page; ComponentLink2URL: http://www.national.com/pf/LM/LM2574.html; ComponentLink3Description: N08E Package Page; ComponentLink3URL: http://www.national.com/packaging/folders/n08e.html
footprint N08E (DIP, 8-Leads, Row Spacing 7.62mm, Pitch 2.54mm, Body 9.91x6.35mm)
pins: 1 FB (in), 2 SGND (power), 3 ON/OFF (in), 4 PGND (power), 5 VIN (power), 6 NC, 7 OUT (power), 8 NC

## LM2574N-12
designator U?
SIMPLE SWITCHER 0.5A Step-Down Voltage Regulator; PartNumber: LM2574N-12; Manufacturer: National Semiconductor; PackageTopMarking: NSUZXYTT*LM2574N*-12 P+; PowerWise: N; FirstPublished: 4-Dec-2008; DatasheetVersion: Jun-1999; PackageVersion: revG, May-2006; PackageReference: N08E; Publisher: Altium Limited; PackageDescription: MDIP, .365 x .250 x .130in, 8 Lead, .100in Pitch; CompType: Switcher; RoHS: O; PinCount: 8; DigiKeyPartNumber: LM2574N-12-ND; Code_JEDEC: MS-001-BA; ComponentLink1Description: LM2574 Datasheet; ComponentLink1URL: http://www.national.com/ds/LM/LM2574.pdf; ComponentLink2Description: LM2574 Web Page; ComponentLink2URL: http://www.national.com/pf/LM/LM2574.html; ComponentLink3Description: N08E Package Page; ComponentLink3URL: http://www.national.com/packaging/folders/n08e.html
footprint N08E (DIP, 8-Leads, Row Spacing 7.62mm, Pitch 2.54mm, Body 9.91x6.35mm)
pins: 1 FB (in), 2 SGND (power), 3 ON/OFF (in), 4 PGND (power), 5 VIN (power), 6 NC, 7 OUT (power), 8 NC

## LM2574N-ADJ
designator U?
SIMPLE SWITCHER 0.5A Step-Down Voltage Regulator; PartNumber: LM2574N-ADJ; Manufacturer: National Semiconductor; PackageTopMarking: NSUZXYTT*LM2574N*-ADJ P+; PowerWise: N; FirstPublished: 4-Dec-2008; DatasheetVersion: Jun-1999; PackageVersion: revG, May-2006; PackageReference: N08E; Publisher: Altium Limited; PackageDescription: MDIP, .365 x .250 x .130in, 8 Lead, .100in Pitch; CompType: Switcher; RoHS: O; PinCount: 8; DigiKeyPartNumber: LM2574N-ADJ-ND; Code_JEDEC: MS-001-BA; ComponentLink1Description: LM2574 Datasheet; ComponentLink1URL: http://www.national.com/ds/LM/LM2574.pdf; ComponentLink2Description: LM2574 Web Page; ComponentLink2URL: http://www.national.com/pf/LM/LM2574.html; ComponentLink3Description: N08E Package Page; ComponentLink3URL: http://www.national.com/packaging/folders/n08e.html
footprint N08E (DIP, 8-Leads, Row Spacing 7.62mm, Pitch 2.54mm, Body 9.91x6.35mm)
pins: 1 FB (in), 2 SGND (power), 3 ON/OFF (in), 4 PGND (power), 5 VIN (power), 6 NC, 7 OUT (power), 8 NC

## LM2575HVM-5.0
designator U?
SIMPLE SWITCHER 1A Step-Down Voltage Regulator; PartNumber: LM2575HVM-5.0; Manufacturer: National Semiconductor; PackageTopMarking: NSUZXYTT*LM2575HVM*-5.0 P+; FirstPublished: 4-Dec-2008; DatasheetVersion: Apr-2007; PackageVersion: revF, Apr-1990; PackageReference: M24B; Publisher: Altium Limited; PackageDescription: Molded Package, S.O., .300in Wide, 24 Lead; CompType: Switcher; RoHS: Y; PinCount: 24; DigiKeyPartNumber: LM2575HVM-5.0-ND; ComponentLink1Description: LM2575HV Datasheet; ComponentLink1URL: http://www.national.com/ds/LM/LM2575HV.pdf; ComponentLink2Description: LM2575HV Web Page; ComponentLink2URL: http://www.national.com/pf/LM/LM2575HV.html; ComponentLink3Description: M24B Package Page; ComponentLink3URL: http://www.national.com/packaging/folders/m24b.html
footprint M24B_N (SOIC, 24-Leads, Body 15.4x7.5mm, Pitch 1.27mm, IPC Medium Density)
footprint M24B_L (SOIC, 24-Leads, Body 15.4x7.5mm, Pitch 1.27mm, IPC High Density)
footprint M24B_M (SOIC, 24-Leads, Body 15.4x7.5mm, Pitch 1.27mm, IPC Low Density)
pins: 1 PGND (power), 2 NC, 3 NC, 4 NC, 5 NC, 6 NC, 7 FB (in), 8 SGND (power), 9 NC, 10 ON/OFF (in), 11 NC, 12 PGND (power), 13 NC, 14 VIN (power), 15 VIN (power), 16 NC, 17 OUT (power), 18 OUT (power), 19 NC, 20 NC, 21 NC, 22 NC, 23 NC, 24 NC

## LM2575HVM-12
designator U?
SIMPLE SWITCHER 1A Step-Down Voltage Regulator; PartNumber: LM2575HVM-12; Manufacturer: National Semiconductor; PackageTopMarking: NSUZXYTT*LM2575HVM*-12 P+; FirstPublished: 4-Dec-2008; DatasheetVersion: Apr-2007; PackageVersion: revF, Apr-1990; PackageReference: M24B; Publisher: Altium Limited; PackageDescription: Molded Package, S.O., .300in Wide, 24 Lead; CompType: Switcher; RoHS: Y; PinCount: 24; DigiKeyPartNumber: LM2575HVM-12-ND; ComponentLink1Description: LM2575HV Datasheet; ComponentLink1URL: http://www.national.com/ds/LM/LM2575HV.pdf; ComponentLink2Description: LM2575HV Web Page; ComponentLink2URL: http://www.national.com/pf/LM/LM2575HV.html; ComponentLink3Description: M24B Package Page; ComponentLink3URL: http://www.national.com/packaging/folders/m24b.html
footprint M24B_N (SOIC, 24-Leads, Body 15.4x7.5mm, Pitch 1.27mm, IPC Medium Density)
footprint M24B_L (SOIC, 24-Leads, Body 15.4x7.5mm, Pitch 1.27mm, IPC High Density)
footprint M24B_M (SOIC, 24-Leads, Body 15.4x7.5mm, Pitch 1.27mm, IPC Low Density)
pins: 1 PGND (power), 2 NC, 3 NC, 4 NC, 5 NC, 6 NC, 7 FB (in), 8 SGND (power), 9 NC, 10 ON/OFF (in), 11 NC, 12 PGND (power), 13 NC, 14 VIN (power), 15 VIN (power), 16 NC, 17 OUT (power), 18 OUT (power), 19 NC, 20 NC, 21 NC, 22 NC, 23 NC, 24 NC

## LM2575HVM-ADJ
designator U?
SIMPLE SWITCHER 1A Step-Down Voltage Regulator; PartNumber: LM2575HVM-ADJ; Manufacturer: National Semiconductor; PackageTopMarking: NSUZXYTT*LM2575HVM*-ADJ P+; FirstPublished: 4-Dec-2008; DatasheetVersion: Apr-2007; PackageVersion: revF, Apr-1990; PackageReference: M24B; Publisher: Altium Limited; PackageDescription: Molded Package, S.O., .300in Wide, 24 Lead; CompType: Switcher; RoHS: O; PinCount: 24; DigiKeyPartNumber: LM2575HVM-ADJ-ND; ComponentLink1Description: LM2575HV Datasheet; ComponentLink1URL: http://www.national.com/ds/LM/LM2575HV.pdf; ComponentLink2Description: LM2575HV Web Page; ComponentLink2URL: http://www.national.com/pf/LM/LM2575HV.html; ComponentLink3Description: M24B Package Page; ComponentLink3URL: http://www.national.com/packaging/folders/m24b.html
footprint M24B_N (SOIC, 24-Leads, Body 15.4x7.5mm, Pitch 1.27mm, IPC Medium Density)
footprint M24B_L (SOIC, 24-Leads, Body 15.4x7.5mm, Pitch 1.27mm, IPC High Density)
footprint M24B_M (SOIC, 24-Leads, Body 15.4x7.5mm, Pitch 1.27mm, IPC Low Density)
pins: 1 PGND (power), 2 NC, 3 NC, 4 NC, 5 NC, 6 NC, 7 FB (in), 8 SGND (power), 9 NC, 10 ON/OFF (in), 11 NC, 12 PGND (power), 13 NC, 14 VIN (power), 15 VIN (power), 16 NC, 17 OUT (power), 18 OUT (power), 19 NC, 20 NC, 21 NC, 22 NC, 23 NC, 24 NC

## LM2575HVN-5.0
designator U?
SIMPLE SWITCHER 1A Step-Down Voltage Regulator; PartNumber: LM2575HVN-5.0; Manufacturer: National Semiconductor; PackageTopMarking: NSUZXYYTTE#*LM2575HVN*-5.0 P+; PowerWise: N; FirstPublished: 4-Dec-2008; DatasheetVersion: Apr-2007; PackageVersion: revB, Feb-1989; PackageReference: N16G; Publisher: Altium Limited; PackageDescription: Molded Dip (N), 16 Lead, 15 Mil Power Package; CompType: Switcher; RoHS: Y; PinCount: 16; DigiKeyPartNumber: LM2575HVN-5.0-ND; ComponentLink1Description: LM2575HV Datasheet; ComponentLink1URL: http://www.national.com/ds/LM/LM2575HV.pdf; ComponentLink2Description: LM2575HV Web Page; ComponentLink2URL: http://www.national.com/pf/LM/LM2575HV.html; ComponentLink3Description: N16G Package Page; ComponentLink3URL: http://www.national.com/packaging/folders/n16g.html
footprint N16G (DIP, 16-Leads, Row Spacing 7.62mm, Pitch 2.54mm, Body 21.76x6.35mm)
pins: 1 NC, 2 NC, 3 OUT (power), 4 NC, 5 GND (power), 6 NC, 7 FB (in), 8 NC, 9 ON/OFF (in), 10 NC, 11 GND (power), 12 GND (power), 13 GND (power), 14 GND (power), 15 NC, 16 VIN (power)

## LM2575HVN-12
designator U?
SIMPLE SWITCHER 1A Step-Down Voltage Regulator; PartNumber: LM2575HVN-12; Manufacturer: National Semiconductor; PackageTopMarking: NSUZXYYTTE#*LM2575HVN*-12 P+; FirstPublished: 4-Dec-2008; DatasheetVersion: Apr-2007; PackageVersion: revB, Feb-1989; PackageReference: N16G; Publisher: Altium Limited; PackageDescription: Molded Dip (N), 16 Lead, 15 Mil Power Package; CompType: Switcher; RoHS: Y; PinCount: 16; DigiKeyPartNumber: LM2575HVN-12-ND; ComponentLink1Description: LM2575HV Datasheet; ComponentLink1URL: http://www.national.com/ds/LM/LM2575HV.pdf; ComponentLink2Description: LM2575HV Web Page; ComponentLink2URL: http://www.national.com/pf/LM/LM2575HV.html; ComponentLink3Description: N16G Package Page; ComponentLink3URL: http://www.national.com/packaging/folders/n16g.html
footprint N16G (DIP, 16-Leads, Row Spacing 7.62mm, Pitch 2.54mm, Body 21.76x6.35mm)
pins: 1 NC, 2 NC, 3 OUT (power), 4 NC, 5 GND (power), 6 NC, 7 FB (in), 8 NC, 9 ON/OFF (in), 10 NC, 11 GND (power), 12 GND (power), 13 GND (power), 14 GND (power), 15 NC, 16 VIN (power)

## LM2575HVN-ADJ
designator U?
SIMPLE SWITCHER 1A Step-Down Voltage Regulator; PartNumber: LM2575HVN-ADJ; Manufacturer: National Semiconductor; PackageTopMarking: NSUZXYYTTE#*LM2575HVN*-ADJ P+; PowerWise: N; FirstPublished: 4-Dec-2008; DatasheetVersion: Apr-2007; PackageVersion: revB, Feb-1989; PackageReference: N16G; Publisher: Altium Limited; PackageDescription: Molded Dip (N), 16 Lead, 15 Mil Power Package; CompType: Switcher; RoHS: O; PinCount: 16; DigiKeyPartNumber: LM2575HVN-ADJ-ND; ComponentLink1Description: LM2575HV Datasheet; ComponentLink1URL: http://www.national.com/ds/LM/LM2575HV.pdf; ComponentLink2Description: LM2575HV Web Page; ComponentLink2URL: http://www.national.com/pf/LM/LM2575HV.html; ComponentLink3Description: N16G Package Page; ComponentLink3URL: http://www.national.com/packaging/folders/n16g.html
footprint N16G (DIP, 16-Leads, Row Spacing 7.62mm, Pitch 2.54mm, Body 21.76x6.35mm)
pins: 1 NC, 2 NC, 3 OUT (power), 4 NC, 5 GND (power), 6 NC, 7 FB (in), 8 NC, 9 ON/OFF (in), 10 NC, 11 GND (power), 12 GND (power), 13 GND (power), 14 GND (power), 15 NC, 16 VIN (power)

## LM2575HVS-3.3
designator U?
SIMPLE SWITCHER 1A Step-Down Voltage Regulator; PartNumber: LM2575HVS-3.3; Manufacturer: National Semiconductor; PackageTopMarking: NSUZXYTT*LM2575HVS*-3.3 P+; PowerWise: N; FirstPublished: 4-Dec-2008; DatasheetVersion: Apr-2007; PackageVersion: revD, Apr-2005; PackageReference: TS5B; Publisher: Altium Limited; PackageDescription: TO-263, Molded, .400 x .390 x .180in, 5 Lead, .067in Pitch, Surface Mount; CompType: Switcher; RoHS: Y; PinCount: 5; DigiKeyPartNumber: LM2575HVS-3.3-ND; Code_JEDEC: MO-169-AB; ComponentLink1Description: LM2575HV Datasheet; ComponentLink1URL: http://www.national.com/ds/LM/LM2575HV.pdf; ComponentLink2Description: LM2575HV Web Page; ComponentLink2URL: http://www.national.com/pf/LM/LM2575HV.html; ComponentLink3Description: TS5B Package Page; ComponentLink3URL: http://www.national.com/packaging/folders/ts5b.html
footprint TS5B_N (D2-PAK, 6-Leads, Body 8.6x10.2mm, Pitch 1.7mm, Lead Span 14.1mm, IPC Medium Density)
footprint TS5B_L (D2-PAK, 6-Leads, Body 8.6x10.2mm, Pitch 1.7mm, Lead Span 14.1mm, IPC High Density)
footprint TS5B_M (D2-PAK, 6-Leads, Body 8.6x10.2mm, Pitch 1.7mm, Lead Span 14.1mm, IPC Low Density)
footprint TS5B_M (D2-PAK, 6-Leads, Body 8.6x10.2mm, Pitch 1.7mm, Lead Span 14.1mm, IPC Low Density)
pins: 1 VIN (power), 2 OUT (power), 3 GND (power), 4 FB (in), 5 ~{ON}/OFF (in), 6 TAB (power)

## LM2575HVS-5.0
designator U?
SIMPLE SWITCHER 1A Step-Down Voltage Regulator; PartNumber: LM2575HVS-5.0; Manufacturer: National Semiconductor; PackageTopMarking: NSUZXYTT*LM2575HVS*-5.0 P+; PowerWise: N; FirstPublished: 4-Dec-2008; DatasheetVersion: Apr-2007; PackageVersion: revD, Apr-2005; PackageReference: TS5B; Publisher: Altium Limited; PackageDescription: TO-263, Molded, .400 x .390 x .180in, 5 Lead, .067in Pitch, Surface Mount; CompType: Switcher; RoHS: O; PinCount: 5; DigiKeyPartNumber: LM2575HVS-5.0-ND; Code_JEDEC: MO-169-AB; ComponentLink1Description: LM2575HV Datasheet; ComponentLink1URL: http://www.national.com/ds/LM/LM2575HV.pdf; ComponentLink2Description: LM2575HV Web Page; ComponentLink2URL: http://www.national.com/pf/LM/LM2575HV.html; ComponentLink3Description: TS5B Package Page; ComponentLink3URL: http://www.national.com/packaging/folders/ts5b.html
footprint TS5B_N (D2-PAK, 6-Leads, Body 8.6x10.2mm, Pitch 1.7mm, Lead Span 14.1mm, IPC Medium Density)
footprint TS5B_L (D2-PAK, 6-Leads, Body 8.6x10.2mm, Pitch 1.7mm, Lead Span 14.1mm, IPC High Density)
footprint TS5B_M (D2-PAK, 6-Leads, Body 8.6x10.2mm, Pitch 1.7mm, Lead Span 14.1mm, IPC Low Density)
footprint TS5B_M (D2-PAK, 6-Leads, Body 8.6x10.2mm, Pitch 1.7mm, Lead Span 14.1mm, IPC Low Density)
pins: 1 VIN (power), 2 OUT (power), 3 GND (power), 4 FB (in), 5 ~{ON}/OFF (in), 6 TAB (power)

## LM2575HVS-12
designator U?
SIMPLE SWITCHER 1A Step-Down Voltage Regulator; PartNumber: LM2575HVS-12; Manufacturer: National Semiconductor; PackageTopMarking: NSUZXYTT*LM2575HVS*-12 P+; PowerWise: N; FirstPublished: 4-Dec-2008; DatasheetVersion: Apr-2007; PackageVersion: revD, Apr-2005; PackageReference: TS5B; Publisher: Altium Limited; PackageDescription: TO-263, Molded, .400 x .390 x .180in, 5 Lead, .067in Pitch, Surface Mount; CompType: Switcher; RoHS: O; PinCount: 5; DigiKeyPartNumber: LM2575HVS-12-ND; Code_JEDEC: MO-169-AB; ComponentLink1Description: LM2575HV Datasheet; ComponentLink1URL: http://www.national.com/ds/LM/LM2575HV.pdf; ComponentLink2Description: LM2575HV Web Page; ComponentLink2URL: http://www.national.com/pf/LM/LM2575HV.html; ComponentLink3Description: TS5B Package Page; ComponentLink3URL: http://www.national.com/packaging/folders/ts5b.html
footprint TS5B_N (D2-PAK, 6-Leads, Body 8.6x10.2mm, Pitch 1.7mm, Lead Span 14.1mm, IPC Medium Density)
footprint TS5B_L (D2-PAK, 6-Leads, Body 8.6x10.2mm, Pitch 1.7mm, Lead Span 14.1mm, IPC High Density)
footprint TS5B_M (D2-PAK, 6-Leads, Body 8.6x10.2mm, Pitch 1.7mm, Lead Span 14.1mm, IPC Low Density)
footprint TS5B_M (D2-PAK, 6-Leads, Body 8.6x10.2mm, Pitch 1.7mm, Lead Span 14.1mm, IPC Low Density)
pins: 1 VIN (power), 2 OUT (power), 3 GND (power), 4 FB (in), 5 ~{ON}/OFF (in), 6 TAB (power)

## LM2575HVS-15
designator U?
SIMPLE SWITCHER 1A Step-Down Voltage Regulator; PartNumber: LM2575HVS-15; Manufacturer: National Semiconductor; PackageTopMarking: NSUZXYTT*LM2575HVS*-15 P+; PowerWise: N; FirstPublished: 4-Dec-2008; DatasheetVersion: Apr-2007; PackageVersion: revD, Apr-2005; PackageReference: TS5B; Publisher: Altium Limited; PackageDescription: TO-263, Molded, .400 x .390 x .180in, 5 Lead, .067in Pitch, Surface Mount; CompType: Switcher; RoHS: O; PinCount: 5; DigiKeyPartNumber: LM2575HVS-15-ND; Code_JEDEC: MO-169-AB; ComponentLink1Description: LM2575HV Datasheet; ComponentLink1URL: http://www.national.com/ds/LM/LM2575HV.pdf; ComponentLink2Description: LM2575HV Web Page; ComponentLink2URL: http://www.national.com/pf/LM/LM2575HV.html; ComponentLink3Description: TS5B Package Page; ComponentLink3URL: http://www.national.com/packaging/folders/ts5b.html
footprint TS5B_N (D2-PAK, 6-Leads, Body 8.6x10.2mm, Pitch 1.7mm, Lead Span 14.1mm, IPC Medium Density)
footprint TS5B_L (D2-PAK, 6-Leads, Body 8.6x10.2mm, Pitch 1.7mm, Lead Span 14.1mm, IPC High Density)
footprint TS5B_M (D2-PAK, 6-Leads, Body 8.6x10.2mm, Pitch 1.7mm, Lead Span 14.1mm, IPC Low Density)
footprint TS5B_M (D2-PAK, 6-Leads, Body 8.6x10.2mm, Pitch 1.7mm, Lead Span 14.1mm, IPC Low Density)
pins: 1 VIN (power), 2 OUT (power), 3 GND (power), 4 FB (in), 5 ~{ON}/OFF (in), 6 TAB (power)

## LM2575HVS-ADJ
designator U?
SIMPLE SWITCHER 1A Step-Down Voltage Regulator; PartNumber: LM2575HVS-ADJ; Manufacturer: National Semiconductor; PackageTopMarking: NSUZXYTT*LM2575HVS*-ADJ P+; PowerWise: N; FirstPublished: 4-Dec-2008; DatasheetVersion: Apr-2007; PackageVersion: revD, Apr-2005; PackageReference: TS5B; Publisher: Altium Limited; PackageDescription: TO-263, Molded, .400 x .390 x .180in, 5 Lead, .067in Pitch, Surface Mount; CompType: Switcher; RoHS: O; PinCount: 5; DigiKeyPartNumber: LM2575HVS-ADJ-ND; Code_JEDEC: MO-169-AB; ComponentLink1Description: LM2575HV Datasheet; ComponentLink1URL: http://www.national.com/ds/LM/LM2575HV.pdf; ComponentLink2Description: LM2575HV Web Page; ComponentLink2URL: http://www.national.com/pf/LM/LM2575HV.html; ComponentLink3Description: TS5B Package Page; ComponentLink3URL: http://www.national.com/packaging/folders/ts5b.html
footprint TS5B_N (D2-PAK, 6-Leads, Body 8.6x10.2mm, Pitch 1.7mm, Lead Span 14.1mm, IPC Medium Density)
footprint TS5B_L (D2-PAK, 6-Leads, Body 8.6x10.2mm, Pitch 1.7mm, Lead Span 14.1mm, IPC High Density)
footprint TS5B_M (D2-PAK, 6-Leads, Body 8.6x10.2mm, Pitch 1.7mm, Lead Span 14.1mm, IPC Low Density)
footprint TS5B_M (D2-PAK, 6-Leads, Body 8.6x10.2mm, Pitch 1.7mm, Lead Span 14.1mm, IPC Low Density)
pins: 1 VIN (power), 2 OUT (power), 3 GND (power), 4 FB (in), 5 ~{ON}/OFF (in), 6 TAB (power)

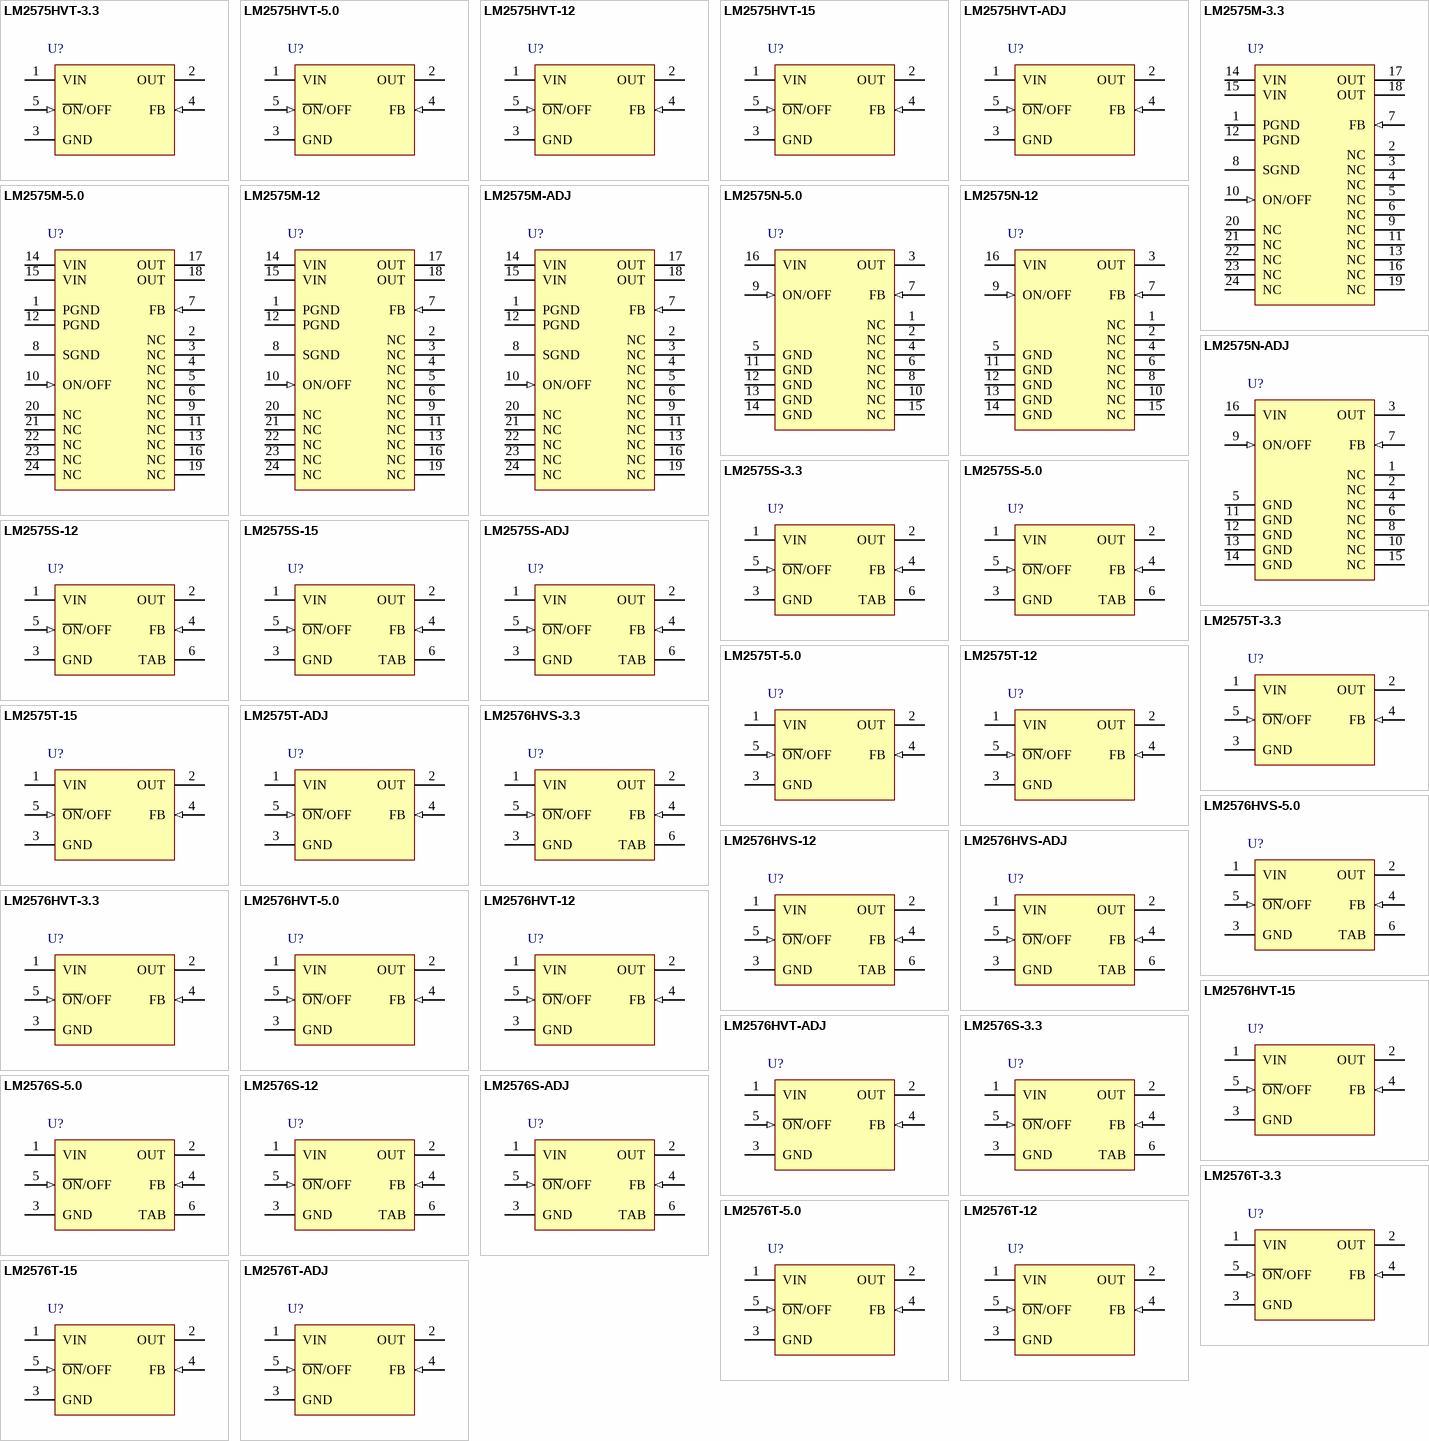
[diagram p1: symbols LM2575HVT-3.3 to LM2576T-ADJ]

## LM2575HVT-3.3
designator U?
SIMPLE SWITCHER 1A Step-Down Voltage Regulator; PartNumber: LM2575HVT-3.3; Manufacturer: National Semiconductor; PackageTopMarking: NSUZXYTT*LM2575HVT*-3.3 P+; PowerWise: N; FirstPublished: 4-Dec-2008; DatasheetVersion: Apr-2007; PackageVersion: revJ, Jan-1992; PackageReference: T05A; Publisher: Altium Limited; PackageDescription: TO-220, Molded, 5 Lead, Straight; CompType: Switcher; RoHS: Y; PinCount: 5; DigiKeyPartNumber: LM2575HVT-3.3-ND; Code_JEDEC: TO-220-AB; ComponentLink1Description: LM2575HV Datasheet; ComponentLink1URL: http://www.national.com/ds/LM/LM2575HV.pdf; ComponentLink2Description: LM2575HV Web Page; ComponentLink2URL: http://www.national.com/pf/LM/LM2575HV.html; ComponentLink3Description: T05A Package Page; ComponentLink3URL: http://www.national.com/packaging/folders/t05a.html
footprint T05A (TO, Thru-Hole, Vertical, Heatsink Mounted; 5 In-Line Leads; Pitch 1.70 mm)
pins: 1 VIN (power), 2 OUT (power), 3 GND (power), 4 FB (in), 5 ~{ON}/OFF (in)

## LM2575HVT-5.0
designator U?
SIMPLE SWITCHER 1A Step-Down Voltage Regulator; PartNumber: LM2575HVT-5.0; Manufacturer: National Semiconductor; PackageTopMarking: NSUZXYTT*LM2575HVT*-5.0 P+; PowerWise: N; FirstPublished: 4-Dec-2008; DatasheetVersion: Apr-2007; PackageVersion: revJ, Jan-1992; PackageReference: T05A; Publisher: Altium Limited; PackageDescription: TO-220, Molded, 5 Lead, Straight; CompType: Switcher; RoHS: O; PinCount: 5; DigiKeyPartNumber: LM2575HVT-5.0-ND; Code_JEDEC: TO-220-AB; ComponentLink1Description: LM2575HV Datasheet; ComponentLink1URL: http://www.national.com/ds/LM/LM2575HV.pdf; ComponentLink2Description: LM2575HV Web Page; ComponentLink2URL: http://www.national.com/pf/LM/LM2575HV.html; ComponentLink3Description: T05A Package Page; ComponentLink3URL: http://www.national.com/packaging/folders/t05a.html
footprint T05A (TO, Thru-Hole, Vertical, Heatsink Mounted; 5 In-Line Leads; Pitch 1.70 mm)
pins: 1 VIN (power), 2 OUT (power), 3 GND (power), 4 FB (in), 5 ~{ON}/OFF (in)

## LM2575HVT-12
designator U?
SIMPLE SWITCHER 1A Step-Down Voltage Regulator; PartNumber: LM2575HVT-12; Manufacturer: National Semiconductor; PackageTopMarking: NSUZXYTT*LM2575HVT*-12 P+; PowerWise: N; FirstPublished: 4-Dec-2008; DatasheetVersion: Apr-2007; PackageVersion: revJ, Jan-1992; PackageReference: T05A; Publisher: Altium Limited; PackageDescription: TO-220, Molded, 5 Lead, Straight; CompType: Switcher; RoHS: O; PinCount: 5; DigiKeyPartNumber: LM2575HVT-12-ND; Code_JEDEC: TO-220-AB; ComponentLink1Description: LM2575HV Datasheet; ComponentLink1URL: http://www.national.com/ds/LM/LM2575HV.pdf; ComponentLink2Description: LM2575HV Web Page; ComponentLink2URL: http://www.national.com/pf/LM/LM2575HV.html; ComponentLink3Description: T05A Package Page; ComponentLink3URL: http://www.national.com/packaging/folders/t05a.html
footprint T05A (TO, Thru-Hole, Vertical, Heatsink Mounted; 5 In-Line Leads; Pitch 1.70 mm)
pins: 1 VIN (power), 2 OUT (power), 3 GND (power), 4 FB (in), 5 ~{ON}/OFF (in)